# Altium integrated library INA128P.IntLib: 1 symbol
Pins are listed as number, name and electrical type; pins without a type are passive.

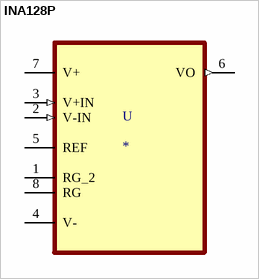
[diagram p0: symbol INA128P]

## INA128P
designator U
Instrumentation Amplifier 1 Circuit 8-PDIP; MP: INA128P; MF: Texas; Package: PDIP-8 Burr Brown; Value: *; Availability: Unavailable; Price: None; SnapEDA_Link: https://www.snapeda.com/parts/INA128P/Texas%20Instruments/view-part/574209/?ref=snap
footprint DIP254P762X508-8
pins: 1 RG_2, 2 V-IN (in), 3 V+IN (in), 4 V- (power), 5 REF, 6 VO (out), 7 V+ (power), 8 RG